# EAGLE library part MC9RS08KA2 (library xess)
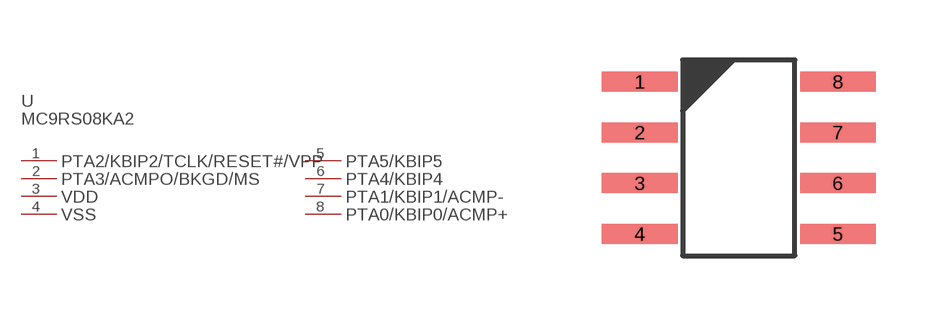
[diagram p82: symbol with the pads of MC9RS08KA2; footprint MC9RS08KA2]

Designator prefix U; gates PART_VALUE=PART_VALUE-MC9RS08KA2 PTA2/KBIP2/TCLK/RESET#/VPP=PL-MC9RS08KA2 PTA3/ACMPO/BKGD/MS=PL-MC9RS08KA2 VDD=PL-MC9RS08KA2 VSS=PL-MC9RS08KA2 PTA5/KBIP5=PL-MC9RS08KA2 PTA4/KBIP4=PL-MC9RS08KA2 PTA1/KBIP1/ACMP-=PL-MC9RS08KA2 PTA0/KBIP0/ACMP+=PL-MC9RS08KA2

## MC9RS08KA2  [MC9RS08KA2]
1  PTA2/KBIP2/TCLK/RESET#/VPP:P$1
2  PTA3/ACMPO/BKGD/MS:P$1
3  VDD:P$1
4  VSS:P$1
5  PTA5/KBIP5:P$1
6  PTA4/KBIP4:P$1
7  PTA1/KBIP1/ACMP-:P$1
8  PTA0/KBIP0/ACMP+:P$1

## Footprint MC9RS08KA2 (pad centres in mm)
smd 1.89 x 0.5: 1 -0.11,0; 2 -0.11,-1.27; 3 -0.11,-2.54; 4 -0.11,-3.81; 5 4.84,-3.81; 6 4.84,-2.54; 7 4.84,-1.27; 8 4.84,0